# EAGLE library part MOTION (library hal-config)
Motion-Module of MOTMOD Installing loadrt motmod [base_period_nsec=period] [servo_period_nsec=period] [traj_period_nsec=period] [key=SHMEM_KEY] [num_joints=[0-9]] Parameters motion-command-handler.time motion-command-handler.tmax motion-controller.time motion-controller.tmax motion.coord-error TRUE when motion has encountered an error, such as exceeding a soft limit motion.coord-mode TRUE when motion is in "coordinated mode", as opposed to "teleop mode" motion.current-vel motion.debug-* These values are used for debugging purposes. motion.in-position Same as the pin motion.motion-inpos motion.motion-enabled TRUE when motion is enabled motion.on-soft-limit motion.program-line motion.servo.last-period The number of CPU cycles between invocations of the servo thread. Typically, this number divided by the CPU speed gives the time in seconds, and can be used to determine whether the realtime motion controller is meeting its timing constraints motion.servo.overruns By noting large differences between successive values of motion.servo.last-period, the motion controller can determine that there has probably been a failure to meet its timing constraints. Each time such a failure is detected, this value is incremented. motion.teleop-mode TRUE when motion is in "teleop mode", as opposed to "coordinated mode"
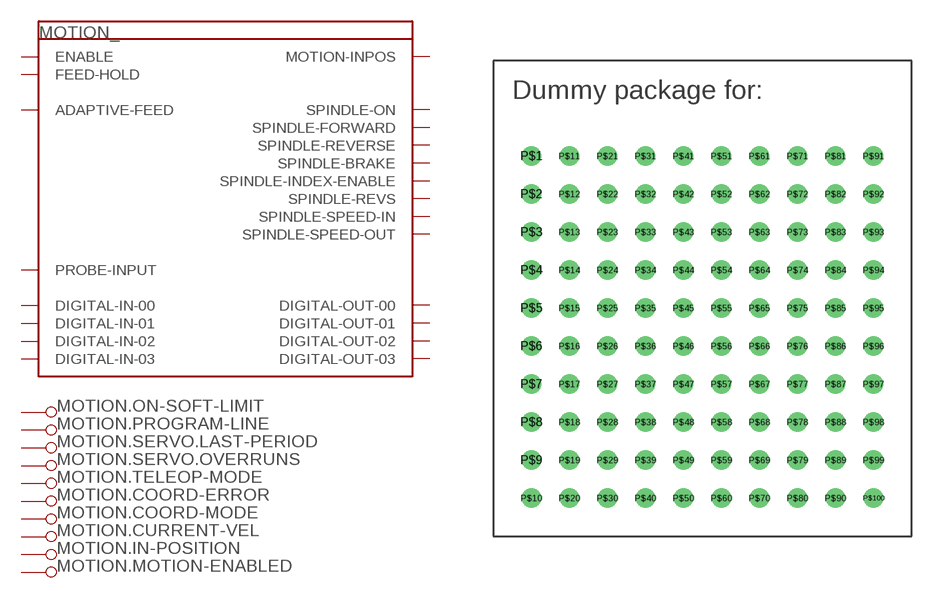
[diagram p0: symbol with the pads of DUMMY; footprint DUMMY]

Designator prefix MOTION; gates _=MOTION .ON-SOFT-LIMIT=PIN_PARAMETER .PROGRAM-LINE=PIN_PARAMETER .SERVO.LAST-PERIOD=PIN_PARAMETER .SERVO.OVERRUNS=PIN_PARAMETER .TELEOP-MODE=PIN_PARAMETER .COORD-ERROR=PIN_PARAMETER .COORD-MODE=PIN_PARAMETER .CURRENT-VEL=PIN_PARAMETER .IN-POSITION=PIN_PARAMETER .MOTION-ENABLED=PIN_PARAMETER

## MOTION  [DUMMY]
P$1  .COORD-ERROR:PIN_PARAMETER
P$2  .COORD-MODE:PIN_PARAMETER
P$3  .CURRENT-VEL:PIN_PARAMETER
P$4  .IN-POSITION:PIN_PARAMETER
P$5  .MOTION-ENABLED:PIN_PARAMETER
P$6  .ON-SOFT-LIMIT:PIN_PARAMETER
P$7  .PROGRAM-LINE:PIN_PARAMETER
P$8  .SERVO.LAST-PERIOD:PIN_PARAMETER
P$9  .SERVO.OVERRUNS:PIN_PARAMETER
P$10  .TELEOP-MODE:PIN_PARAMETER
P$11  _:ADAPTIVE-FEED  in
P$12  _:DIGITAL-IN-00  in
P$13  _:DIGITAL-IN-01  in
P$14  _:DIGITAL-IN-02  in
P$15  _:DIGITAL-IN-03  in
P$16  _:DIGITAL-OUT-00  out
P$17  _:DIGITAL-OUT-01  out
P$18  _:DIGITAL-OUT-02  out
P$19  _:DIGITAL-OUT-03  out
P$20  _:ENABLE  in
P$21  _:FEED-HOLD  in
P$22  _:MOTION-INPOS  out
P$23  _:PROBE-INPUT  in
P$24  _:SPINDLE-BRAKE  out
P$25  _:SPINDLE-FORWARD  out
P$26  _:SPINDLE-INDEX-ENABLE
P$27  _:SPINDLE-ON  out
P$28  _:SPINDLE-REVERSE  out
P$29  _:SPINDLE-REVS  in
P$30  _:SPINDLE-SPEED-IN  in
P$31  _:SPINDLE-SPEED-OUT  out

## Footprint DUMMY (pad centres in mm)
drill 0.8: P$1 0,-1.27; P$2 0,-3.81; P$3 0,-6.35; P$4 0,-8.89; P$5 0,-11.43; P$6 0,-13.97; P$7 0,-16.51; P$8 0,-19.05; P$9 0,-21.59; P$10 0,-24.13; P$11 2.54,-1.27; P$12 2.54,-3.81; P$13 2.54,-6.35; P$14 2.54,-8.89; P$15 2.54,-11.43; P$16 2.54,-13.97; P$17 2.54,-16.51; P$18 2.54,-19.05; P$19 2.54,-21.59; P$20 2.54,-24.13; P$21 5.08,-1.27; P$22 5.08,-3.81; P$23 5.08,-6.35; P$24 5.08,-8.89; P$25 5.08,-11.43; P$26 5.08,-13.97; P$27 5.08,-16.51; P$28 5.08,-19.05; P$29 5.08,-21.59; P$30 5.08,-24.13; P$31 7.62,-1.27; P$32 7.62,-3.81; P$33 7.62,-6.35; P$34 7.62,-8.89; P$35 7.62,-11.43; P$36 7.62,-13.97; P$37 7.62,-16.51; P$38 7.62,-19.05; P$39 7.62,-21.59; P$40 7.62,-24.13; P$41 10.16,-1.27; P$42 10.16,-3.81; P$43 10.16,-6.35; P$44 10.16,-8.89; P$45 10.16,-11.43; P$46 10.16,-13.97; P$47 10.16,-16.51; P$48 10.16,-19.05; P$49 10.16,-21.59; P$50 10.16,-24.13; P$51 12.7,-1.27; P$52 12.7,-3.81; P$53 12.7,-6.35; P$54 12.7,-8.89; P$55 12.7,-11.43; P$56 12.7,-13.97; P$57 12.7,-16.51; P$58 12.7,-19.05; P$59 12.7,-21.59; P$60 12.7,-24.13; P$61 15.24,-1.27; P$62 15.24,-3.81; P$63 15.24,-6.35; P$64 15.24,-8.89; P$65 15.24,-11.43; P$66 15.24,-13.97; P$67 15.24,-16.51; P$68 15.24,-19.05; P$69 15.24,-21.59; P$70 15.24,-24.13; P$71 17.78,-1.27; P$72 17.78,-3.81; P$73 17.78,-6.35; P$74 17.78,-8.89; P$75 17.78,-11.43; P$76 17.78,-13.97; P$77 17.78,-16.51; P$78 17.78,-19.05; P$79 17.78,-21.59; P$80 17.78,-24.13; P$81 20.32,-1.27; P$82 20.32,-3.81; P$83 20.32,-6.35; P$84 20.32,-8.89; P$85 20.32,-11.43; P$86 20.32,-13.97; P$87 20.32,-16.51; P$88 20.32,-19.05; P$89 20.32,-21.59; P$90 20.32,-24.13; P$91 22.86,-1.27; P$92 22.86,-3.81; P$93 22.86,-6.35; P$94 22.86,-8.89; P$95 22.86,-11.43; P$96 22.86,-13.97; P$97 22.86,-16.51; P$98 22.86,-19.05; P$99 22.86,-21.59; P$100 22.86,-24.13